# Altium footprint library W-Wire convert.PcbLib: 1 footprints
Each footprint in its own frame and in the unit in brackets; x right, y up, seen from the top. Pads: shape width x height; smd on the part's side, far side on the other; paste and mask are expansions set on the pad; w line width, h text height; cw(c..) or ccw(c..) is an arc to the next point about the centre after c.
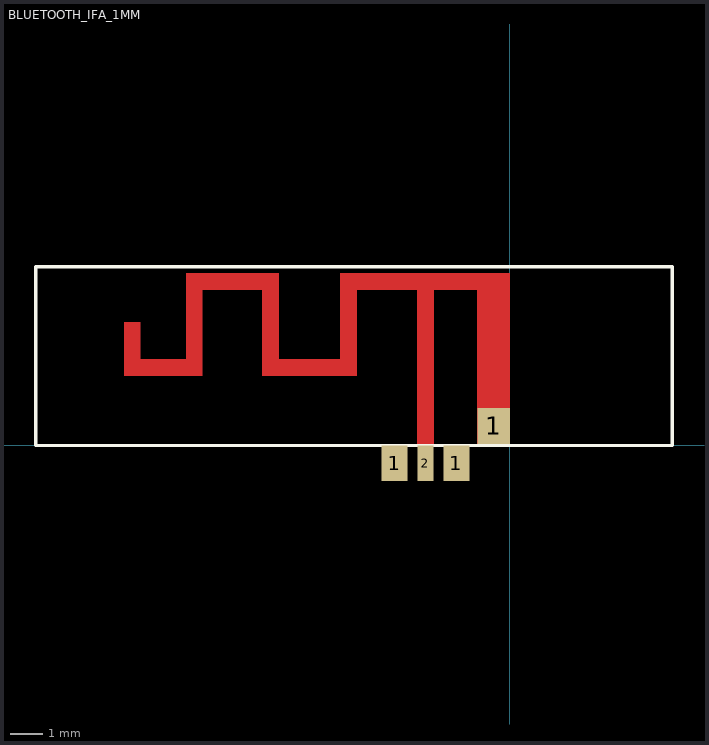
[diagram p0: the footprint, top view; thin cyan lines are the x and y axes]

## BLUETOOTH_IFA_1MM [mm]
pads (4):
  rect 0.8x1.1 smd: 1(-3.55,-0.55) 1(-1.65,-0.55)
  rect 1x1.1 smd paste-1 mask-1: 1(-0.5,0.6)
  rect 0.5x1.1 smd paste-1 mask-1: 2(-2.6,-0.55)
Top Layer:
  region: 0,0 0,5.3 -5.22,5.3 -5.22,2.65 -7.12,2.65 -7.12,5.3 -9.97,5.3 -9.97,2.65 -11.38,2.65 -11.38,3.8 -11.88,3.8 -11.88,2.14 -9.47,2.14 -9.47,4.8 -7.62,4.8 -7.62,2.14 -4.72,2.14 -4.72,4.8 -2.85,4.8 -2.85,0 -2.35,0 -2.35,4.8 -1,4.8 -1,0
Top Overlay:
  lines w0.1: -14.6,0 -14.6,5.5 5,5.5 5,0 -14.6,0